# EAGLE library part MQ (library detectors_sensors)
Gas detector sensors as described below: model type MQ-2 Smoke MQ-4 Methane MQ-5 LPG, CH4 MQ-7 Carbon Monoxide, CO MQ-8 Hydrogen MQ-9 Carbon Monoxide & Methane
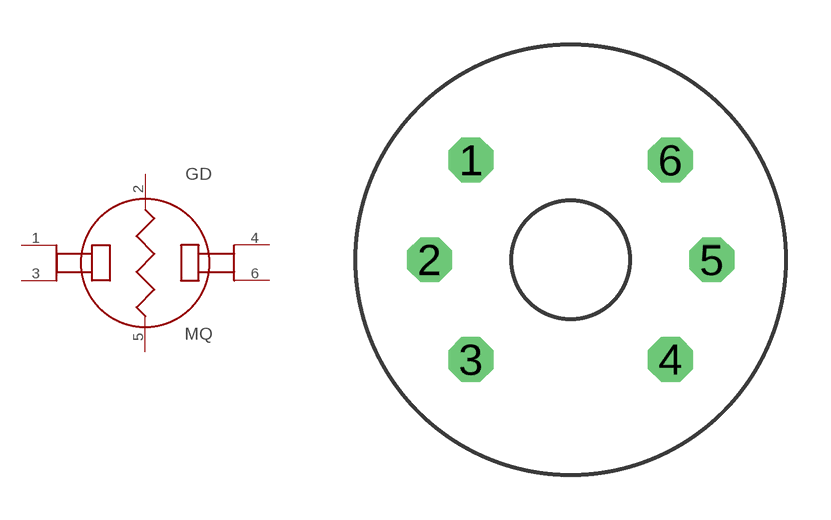
[diagram p0: symbol with the pads of MQ; footprint MQ]

Designator prefix GD

## MQ-9  [MQ]
1  T1
2  H1
3  T2
4  R1
5  H2
6  R2

## MQ-2  [MQ]
Pads as for MQ

## MQ-5  [MQ]
Pads as for MQ

## MQ-4  [MQ]
Pads as for MQ

## MQ-7  [MQ]
Pads as for MQ

## MQ-8  [MQ]
Pads as for MQ

## Footprint MQ (pad centres in mm)
drill 1 octagon: 1 -3.36,3.36; 2 -4.75,0; 3 -3.36,-3.36; 4 3.36,-3.36; 5 4.75,0; 6 3.36,3.36